# EAGLE library part ARJM11C7-104-AB-EW2 (library ethernet_poe_stm_v1.0)
1 Port RJ45 Magjack Connector Through Hole 10/100 Base-T, AutoMDIX, Power over Ethernet (PoE)
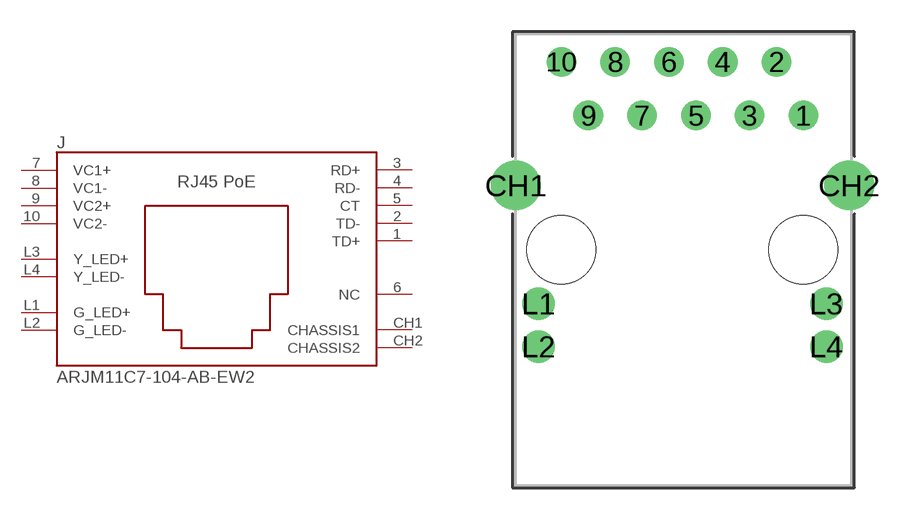
[diagram p3: symbol with the pads of CONN_EW_ABR; footprint CONN_EW_ABR]

Designator prefix J

## ARJM11C7-104-AB-EW2 (DKPN: 535-14148-ND)  [CONN_EW_ABR]
1  TD+  pas
2  TD-  pas
3  RD+  pas
4  RD-  pas
5  CT  pas
6  NC  nc
7  VC1+  pas
8  VC1-  pas
9  VC2+  pas
10  VC2-  pas
CH1  CHASSIS1  pas
CH2  CHASSIS2  pas
L1  G_LED+  pas
L2  G_LED-  pas
L3  Y_LED+  pas
L4  Y_LED-  pas

## Footprint CONN_EW_ABR (pad centres in mm)
drill 0.89 pad 1.397: 1 5.715,0; 2 4.445,2.54; 3 3.175,0; 4 1.905,2.54; 6 -0.635,2.54; 7 -1.905,0; 8 -3.175,2.54; 9 -4.445,0; 10 -5.715,2.54
drill 0.889 pad 1.397: 5 0.635,0
drill 1.57 pad 2.083: CH1 -7.875,-3.3; CH2 7.875,-3.3
drill 1.02 pad 1.524: L1 -6.8,-8.9; L2 -6.8,-10.93; L3 6.8,-8.9; L4 6.8,-10.93
hole 3.25 at 5.715,-6.35
hole 3.25 at -5.715,-6.35